# Altium schematic symbol library Capacitor Film.SchLib: 5 symbols
Pins are listed as number, name and electrical type; pins without a type are passive.

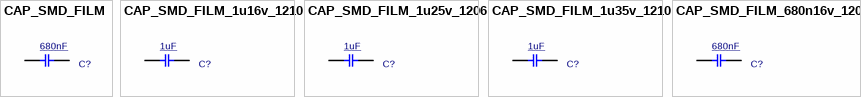
[diagram p0: symbols CAP_SMD_FILM to CAP_SMD_FILM_680n16v_1206]

## CAP_SMD_FILM
designator C?, comment 680nF
CAP, FILM, 680nF, 16V, Acryl, 20%, 1206; PARAM: Acrylic, MetallizedStacked, 20%, -40~85oC; MANF: Murata; PRICE: 100= 40$; DESC: -; MANF_P#: -; PARAM2: 16V; ASSEMBLY: ASSEMBLY; VALUE: 680nF
footprint C1206 (CHIP Capacitor, 3.2X1.6mm, 1206)
pins: 1, 2

## CAP_SMD_FILM_1u16v_1210
designator C?, comment 1uF
CAP, FILM, 1uF, 16V, Acryl, 20%, 1210; PARAM: Acrylic, MetallizedStacked, 20%, -40~85oC; MANF_P#: ECP-U1C105MA5; MANF: Panasonic; PRICE: 100= 36$; DESC: -; PARAM2: 16V; ASSEMBLY: ASSEMBLY; VALUE: 1uF
footprint C1210 (CHIP Capacitor, 3.2X2.5mm, 1210, 3225)
pins: 1, 2

## CAP_SMD_FILM_1u25v_1206
designator C?, comment 1uF
CAP, FILM, 680nF, 25V, Acryl, 20%, 1206; PARAM: AcrylicMetallized, 20%, -55~125oC; MANF_P#: 25MU105MA23216; MANF: Rubycon; PRICE: 100= 290$; DESC: -; PARAM2: 25V; ASSEMBLY: ASSEMBLY; VALUE: 1uF
footprint C1206 (CHIP Capacitor, 3.2X1.6mm, 1206)
pins: 1, 2

## CAP_SMD_FILM_1u35v_1210
designator C?, comment 1uF
CAP, FILM, 680nF, 35V, Acryl, 20%, 1210; PARAM: AcrylicMetallized, 20%, -55~125oC; MANF_P#: 35ST105MB13225; MANF: Rubycon; PRICE: 100= 270$; DESC: -; PARAM2: 35V; ASSEMBLY: ASSEMBLY; VALUE: 1uF
footprint C1210 (CHIP Capacitor, 3.2X2.5mm, 1210, 3225)
pins: 1, 2

## CAP_SMD_FILM_680n16v_1206
designator C?, comment 680nF
CAP, FILM, 680nF, 16V, Acryl, 20%, 1206; PARAM: Acrylic, MetallizedStacked, 20%, -40~85oC; MANF_P#: ECP-U1C684MA5; MANF: Panasonic; PRICE: 100= 40$; DESC: -; PARAM2: 16V; ASSEMBLY: ASSEMBLY; VALUE: 680nF
footprint C1206 (CHIP Capacitor, 3.2X1.6mm, 1206)
pins: 1, 2